# EAGLE library part CON-12P-TABS (library Connectors)
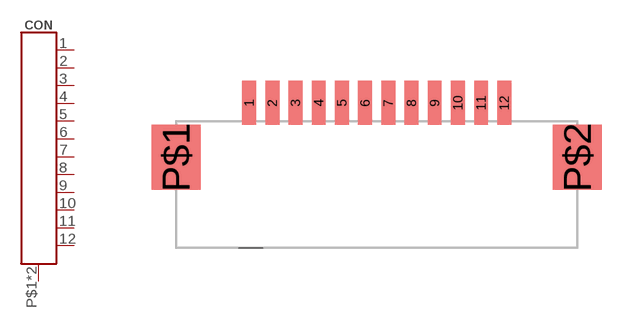
[diagram p8: symbol with the pads of 522071233; footprint 522071233]

Designator prefix CON

## CON-12P-TABS (LCSC#: C122397; MANF: MOLEX; MANF#: 522071233)  [522071233]
1  1
2  2
3  3
4  4
5  5
6  6
7  7
8  8
9  9
10  10
11  11
12  12
P$1  TABS
P$2  TABS

## Footprint 522071233 (pad centres in mm)
Slide Lock 12 Contact,Top Surface Mount 1mm SMD,P=1mm FFC/FPC Connectors ROHS Drawing <https://datasheet.lcsc.com/lcsc/1811021622_MOLEX-522071233_C122397.pdf>
smd 0.6 x 1.9: 1 -5.5,0; 2 -4.5,0; 3 -3.5,0; 4 -2.5,0; 5 -1.5,0; 6 -0.5,0; 7 0.5,0; 8 1.5,0; 9 2.5,0; 10 3.5,0; 11 4.5,0; 12 5.5,0
smd 2.1 x 2.8: P$1 -8.65,-2.35; P$2 8.65,-2.35